# Altium footprint library Capacitors THD.PcbLib: 270 footprints (part 4 of 17)
Each footprint in its own frame and in the unit in brackets; x right, y up, seen from the top. Pads: shape width x height; smd on the part's side, far side on the other; paste and mask are expansions set on the pad; w line width, h text height; cw(c..) or ccw(c..) is an arc to the next point about the centre after c.
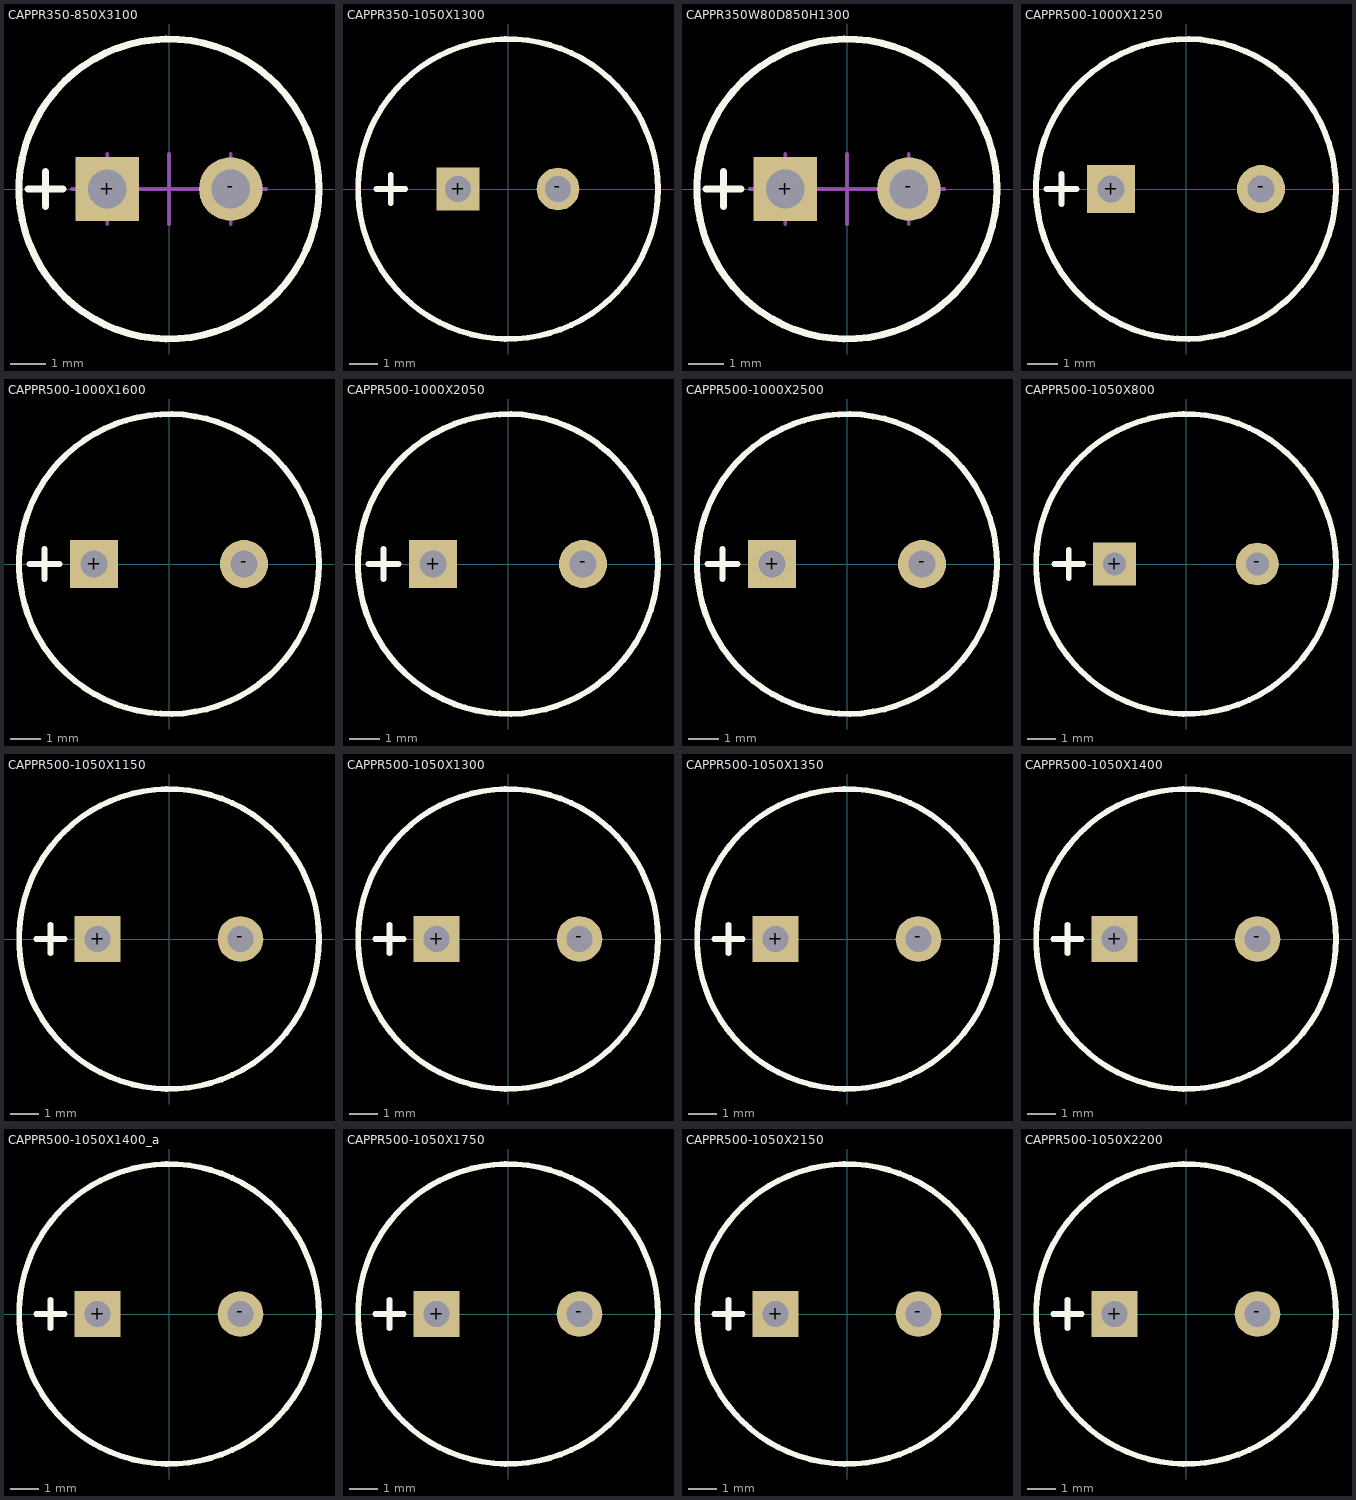
[diagram p3: the footprints below, top view; thin cyan lines are the x and y axes]

## CAPPR350-850X3100 [mm] "Capacitor, Radial, Pin spacing 3.5mm - Body Diameter 8.5mm x Body Height 31mm"
height 31
pads (2):
  rect 1.8x1.8 hole 1.1: +(-1.75,0)
  round 1.8 hole 1.1: -(1.75,0)
Top Overlay:
  circle w0.2: c0,0 r4.25
  lines w0.2: -4,0 -3,0 ; -3.5,-0.5 -3.5,0.5
Mechanical 8:
  circle w0.1: c1.75,0 r0.225
  circle w0.1: c-1.75,0 r0.225
  lines w0.1: -2.75,0 -1.75,0 ; -1.975,0 -1.75,0 ; -1.75,-1 -1.75,0 ; -1.75,-0.225 -1.75,0 ; -1.75,1 -1.75,0 ; -1,0 0,0 ; -0.75,0 -1.75,0 ; 0,-1 0,0 ; 0,1 0,0 ; 0.75,0 1.75,0 ; 1,0 0,0 ; 1.525,0 1.75,0 ; 1.75,-1 1.75,0 ; 1.75,-0.225 1.75,0 ; 1.75,1 1.75,0 ; 2.75,0 1.75,0
Mechanical 14:
  circle w0.1: c0,0 r4.25
  lines w0.1: -4,0 -3,0 ; -3.5,-0.5 -3.5,0.5
3D body "CAPPR350-850X3100.stp": height 31, standoff -3.8, extent -4.25,-4.246 4.25,4.246

## CAPPR350-1050X1300 [mm] "Capacitor, Radial, Pin spacing 3.5mm - Body Diameter 10.5mm X Body Height 13mm"
height 13
pads (2):
  rect 1.5x1.5 hole 0.9: +(-1.75,0)
  round 1.5 hole 0.9: -(1.75,0)
Top Overlay:
  circle w0.2: c0,0 r5.25
  lines w0.2: -4.6,0 -3.6,0 ; -4.1,-0.5 -4.1,0.5
Mechanical 13:
  circle w0.1: c0,0 r5.25
Mechanical 14:
  circle w0.1: c0,0 r5.25
  lines w0.1: -4.6,0 -3.6,0 ; -4.1,-0.5 -4.1,0.5
3D body "CAPPR350-1050X1300.stp": height 13, standoff -3.6, extent -5.25,-5.25 5.25,5.25

## CAPPR350W80D850H1300 [mm] "Capacitor, Radial, Pin spacing 3.5mm - Body Diameter 8.5mm x Body Height 13mm"
height 13
pads (2):
  rect 1.8x1.8 hole 1.1: +(-1.75,0)
  round 1.8 hole 1.1: -(1.75,0)
Top Overlay:
  circle w0.2: c0,0 r4.25
  lines w0.2: -4,0 -3,0 ; -3.5,-0.5 -3.5,0.5
Mechanical 8:
  circle w0.1: c-1.75,0 r0.225
  circle w0.1: c1.75,0 r0.225
  lines w0.1: -2.75,0 -1.75,0 ; -1.975,0 -1.75,0 ; -1.75,-1 -1.75,0 ; -1.75,-0.225 -1.75,0 ; -1.75,1 -1.75,0 ; -1,0 0,0 ; -0.75,0 -1.75,0 ; 0,-1 0,0 ; 0,1 0,0 ; 0.75,0 1.75,0 ; 1,0 0,0 ; 1.525,0 1.75,0 ; 1.75,-1 1.75,0 ; 1.75,-0.225 1.75,0 ; 1.75,1 1.75,0 ; 2.75,0 1.75,0
Mechanical 14:
  circle w0.1: c0,0 r4.25
  lines w0.1: -4,0 -3,0 ; -3.5,-0.5 -3.5,0.5
3D body "CAPPR350-850X1300.stp": height 13, standoff -3.6, extent -4.25,-4.246 4.25,4.246

## CAPPR500-1000X1250 [mm] "Capacitor, Radial, Pin spacing 5.0mm - Body Diameter 10.0mm X Body Height 12.5mm"
height 12.5
pads (2):
  rect 1.6x1.6 hole 0.9: +(-2.5,0)
  round 1.6 hole 0.9: -(2.5,0)
Top Overlay:
  circle w0.2: c0,0 r5
  lines w0.2: -4.65,0 -3.65,0 ; -4.15,-0.5 -4.15,0.5
Mechanical 13:
  circle w0.1: c0,0 r5
Mechanical 14:
  circle w0.1: c0,0 r5
  lines w0.1: -4.65,0 -3.65,0 ; -4.15,-0.5 -4.15,0.5
3D body "CAPPR500-1000X1250.stp": height 12.5, standoff -3.6, extent -5.01,-5.01 4.99,4.956

## CAPPR500-1000X1600 [mm] "Capacitor, Radial, Pin spacing 5.0mm - Body Diameter 10.0mm X Body Height 16.0mm"
height 16
pads (2):
  rect 1.6x1.6 hole 0.9: +(-2.5,0)
  round 1.6 hole 0.9: -(2.5,0)
Top Overlay:
  circle w0.2: c0,0 r5
  lines w0.2: -4.65,0 -3.65,0 ; -4.15,-0.5 -4.15,0.5
Mechanical 13:
  circle w0.1: c0,0 r5
Mechanical 14:
  circle w0.1: c0,0 r5
  lines w0.1: -4.65,0 -3.65,0 ; -4.15,-0.5 -4.15,0.5
3D body "CAPPR500-1000X1600.stp": height 16, standoff -3.6, extent -5.01,-5.01 4.99,4.99

## CAPPR500-1000X2050 [mm] "Capacitor, Radial, Pin spacing 5.0mm - Body Diameter 10mm X Body Height 20.5mm"
height 20.5
pads (2):
  rect 1.6x1.6 hole 0.9: +(-2.5,0)
  round 1.6 hole 0.9: -(2.5,0)
Top Overlay:
  circle w0.2: c0,0 r5
  lines w0.2: -4.65,0 -3.65,0 ; -4.15,-0.5 -4.15,0.5
Mechanical 14:
  circle w0.1: c0,0 r5
  lines w0.1: -4.65,0 -3.65,0 ; -4.15,-0.5 -4.15,0.5
3D body "CAPPR500-1000X2050.stp": height 20.5, standoff -3.6, extent -5,-5 5,5

## CAPPR500-1000X2500 [mm] "Capacitor, Radial, Pin spacing 5.0mm - Body Diameter 10.0mm X Body Height 25.0mm"
height 25
pads (2):
  rect 1.6x1.6 hole 0.9: +(-2.5,0)
  round 1.6 hole 0.9: -(2.5,0)
Top Overlay:
  circle w0.2: c0,0 r5
  lines w0.2: -4.65,0 -3.65,0 ; -4.15,-0.5 -4.15,0.5
Mechanical 13:
  circle w0.1: c0,0 r5
Mechanical 14:
  circle w0.1: c0,0 r5
  lines w0.1: -4.65,0 -3.65,0 ; -4.15,-0.5 -4.15,0.5
3D body "CAPPR500-1000X2500.stp": height 25, standoff -3.6, extent -5.01,-5.01 4.99,4.99

## CAPPR500-1050X800 [mm] "Capacitor, Radial, Pin spacing 5.0mm - Body Diameter 10.0mm X Body Height 8mm"
height 8
pads (2):
  rect 1.5x1.5 hole 0.8: +(-2.5,0)
  round 1.5 hole 0.8: -(2.5,0)
Top Overlay:
  circle w0.2: c0,0 r5.25
  lines w0.2: -4.6,0 -3.6,0 ; -4.1,-0.5 -4.1,0.5
Mechanical 14:
  circle w0.1: c0,0 r5.25
  lines w0.1: -4.6,0 -3.6,0 ; -4.1,-0.5 -4.1,0.5
3D body "CAPPR500-1050X800.stp": height 8, standoff -3.6, extent -5.25,-5.228 5.25,5.228

## CAPPR500-1050X1150 [mm] "Capacitor, Radial, Pin spacing 5.0mm - Body Diameter 10.5mm X Body Height 11.5mm"
height 11.5
pads (2):
  rect 1.6x1.6 hole 0.9: +(-2.5,0)
  round 1.6 hole 0.9: -(2.5,0)
Top Overlay:
  circle w0.2: c0,0 r5.25
  lines w0.2: -4.65,0 -3.65,0 ; -4.15,-0.5 -4.15,0.5
Mechanical 13:
  circle w0.1: c0,0 r5.25
Mechanical 14:
  circle w0.1: c0,0 r5.25
  lines w0.1: -4.65,0 -3.65,0 ; -4.15,-0.5 -4.15,0.5
3D body "CAPPR500-1050X1150.stp": height 11.5, standoff -3.6, extent -5.25,-5.227 5.25,5.228

## CAPPR500-1050X1300 [mm] "Capacitor, Radial, Pin spacing 5.0mm - Body Diameter 10mm (nom) X Body Height 13mm (max)"
height 13
pads (2):
  rect 1.6x1.6 hole 0.9: +(-2.5,0)
  round 1.6 hole 0.9: -(2.5,0)
Top Overlay:
  circle w0.2: c0,0 r5.25
  lines w0.2: -4.65,0 -3.65,0 ; -4.15,-0.5 -4.15,0.5
Mechanical 13:
  circle w0.1: c0,0 r5.25
Mechanical 14:
  circle w0.1: c0,0 r5.25
  lines w0.1: -4.65,0 -3.65,0 ; -4.15,-0.5 -4.15,0.5
3D body "CAPPR500-1050X1300.stp": height 13, standoff -3.6, extent -5.25,-5.227 5.25,5.228

## CAPPR500-1050X1350 [mm] "Capacitor, Radial, Pin spacing 5.0mm - Body Diameter 10.5mm X Body Height 13.5mm"
height 13.5
pads (2):
  rect 1.6x1.6 hole 0.9: +(-2.5,0)
  round 1.6 hole 0.9: -(2.5,0)
Top Overlay:
  circle w0.2: c0,0 r5.25
  lines w0.2: -4.65,0 -3.65,0 ; -4.15,-0.5 -4.15,0.5
Mechanical 13:
  circle w0.1: c0,0 r5.25
Mechanical 14:
  circle w0.1: c0,0 r5.25
  lines w0.1: -4.65,0 -3.65,0 ; -4.15,-0.5 -4.15,0.5
3D body "CAPPR500-1050X1350.stp": height 13.5, standoff -3.6, extent -5.25,-5.227 5.25,5.228

## CAPPR500-1050X1400 [mm] "Capacitor, Radial, Pin spacing 5.0mm - Body Diameter 10.5mm X Body Height 14mm"
height 14
pads (2):
  rect 1.6x1.6 hole 0.9: +(-2.5,0)
  round 1.6 hole 0.9: -(2.5,0)
Top Overlay:
  circle w0.2: c0,0 r5.25
  lines w0.2: -4.65,0 -3.65,0 ; -4.15,-0.5 -4.15,0.5
Mechanical 13:
  circle w0.1: c0,0 r5.25
Mechanical 14:
  circle w0.1: c0,0 r5.25
  lines w0.1: -4.65,0 -3.65,0 ; -4.15,-0.5 -4.15,0.5
3D body "CAPPR500-1050X1400.stp": height 14, standoff -3.6, extent -5.25,-5.227 5.25,5.228

## CAPPR500-1050X1400_a [mm] "Capacitor, Radial, Pin spacing 5.0mm - Body Diameter 10.5mm X Body Height 14mm"
height 14
pads (2):
  rect 1.6x1.6 hole 0.9: +(-2.5,0)
  round 1.6 hole 0.9: -(2.5,0)
Top Overlay:
  circle w0.2: c0,0 r5.25
  lines w0.2: -4.65,0 -3.65,0 ; -4.15,-0.5 -4.15,0.5
Mechanical 13:
  circle w0.1: c0,0 r5.25
Mechanical 14:
  circle w0.1: c0,0 r5.25
  lines w0.1: -4.65,0 -3.65,0 ; -4.15,-0.5 -4.15,0.5
3D body "CAPPR500-1050X1400_a.stp": height 14, standoff -3.6, extent -5.25,-5.233 5.25,5.233

## CAPPR500-1050X1750 [mm] "Capacitor, Radial, Pin spacing 5.0mm - Body Diameter 10.5mm X Body Height 17.5mm"
height 17.5
pads (2):
  rect 1.6x1.6 hole 0.9: +(-2.5,0)
  round 1.6 hole 0.9: -(2.5,0)
Top Overlay:
  circle w0.2: c0,0 r5.25
  lines w0.2: -4.65,0 -3.65,0 ; -4.15,-0.5 -4.15,0.5
Mechanical 13:
  circle w0.1: c0,0 r5.25
Mechanical 14:
  circle w0.1: c0,0 r5.25
  lines w0.1: -4.65,0 -3.65,0 ; -4.15,-0.5 -4.15,0.5
3D body "CAPPR500-1050X1750.stp": height 17.5, standoff -3.6, extent -5.25,-5.227 5.25,5.228

## CAPPR500-1050X2150 [mm] "Capacitor, Radial, Pin spacing 5.0mm - Body Diameter 10mm X Body Height 20mm"
height 21.5
pads (2):
  rect 1.6x1.6 hole 0.9: +(-2.5,0)
  round 1.6 hole 0.9: -(2.5,0)
Top Overlay:
  circle w0.2: c0,0 r5.25
  lines w0.2: -4.65,0 -3.65,0 ; -4.15,-0.5 -4.15,0.5
Mechanical 13:
  circle w0.1: c0,0 r5.25
Mechanical 14:
  circle w0.1: c0,0 r5.25
  lines w0.1: -4.65,0 -3.65,0 ; -4.15,-0.5 -4.15,0.5
3D body "CAPPR500-1050X2150.stp": height 21.5, standoff -3.6, extent -5.25,-5.227 5.25,5.228

## CAPPR500-1050X2200 [mm] "Capacitor, Radial, Pin spacing 5.0mm - Body Diameter 10.5mm X Body Height 22mm"
height 22
pads (2):
  rect 1.6x1.6 hole 0.9: +(-2.5,0)
  round 1.6 hole 0.9: -(2.5,0)
Top Overlay:
  circle w0.2: c0,0 r5.25
  lines w0.2: -4.65,0 -3.65,0 ; -4.15,-0.5 -4.15,0.5
Mechanical 13:
  circle w0.1: c0,0 r5.25
Mechanical 14:
  circle w0.1: c0,0 r5.25
  lines w0.1: -4.65,0 -3.65,0 ; -4.15,-0.5 -4.15,0.5
3D body "CAPPR500-1050X2200.stp": height 22, standoff -3.6, extent -5.25,-5.228 5.25,5.228